# EAGLE library part ISL3170E (library intersil)
RS-485 TRANSCEIVER
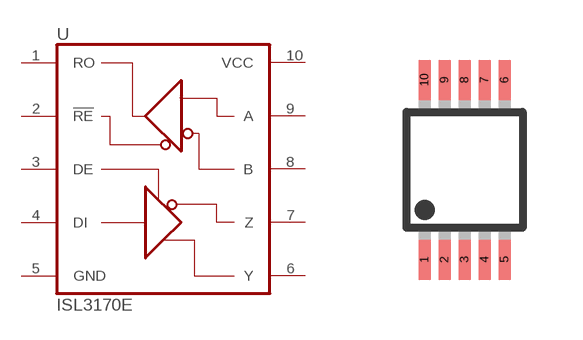
[diagram p1: symbol with the pads of MSOP10; footprint MSOP10]

Designator prefix U

## ISL3170EIUZ  [MSOP10]
1  RO  out
2  !RE!  in
3  DE  in
4  DI  in
5  GND  pwr
6  Y
7  Z
8  B
9  A
10  VCC  pwr

## Footprint MSOP10 (pad centres in mm)
10-Lead microSOIC (RM-10) 10-µSOIC
smd 0.3 x 1: 1 -1,-2.25; 2 -0.5,-2.25; 3 0,-2.25; 4 0.5,-2.25; 5 1,-2.25; 6 1,2.25; 7 0.5,2.25; 8 0,2.25; 9 -0.5,2.25; 10 -1,2.25